# Altium schematic symbol library esp8266.SchLib: 5 symbols
Pins are listed as number, name and electrical type; pins without a type are passive.

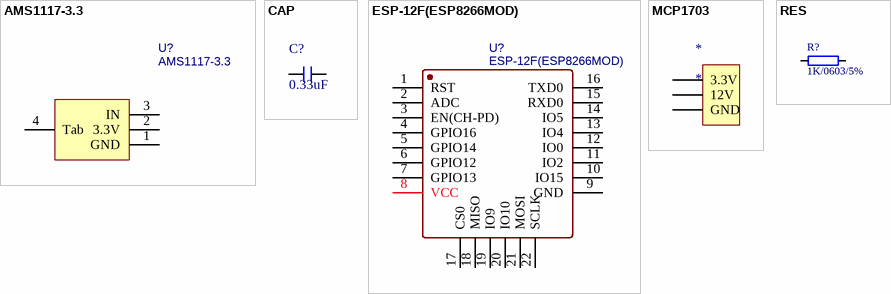
[diagram p0: symbols AMS1117-3.3 to RES]

## AMS1117-3.3
designator U?
BOM_Manufacturer: SK; Contributor: LCSC; SMT Type: Extend; BOM_Supplier: LCSC; BOM_Supplier Part: C165482; BOM_Manufacturer Part: AMS1117-3.3; BOM_LCSC Assembly: Yes; spicePre: U; spiceSymbolName: AMS1117-3.3_C165482
footprint SOT-223_L6.5-W3.5-P2.30-LS7.0-BR
pins: 1 GND, 2 3.3V, 3 IN, 4 Tab

## CAP
designator C?, comment 0.33uF
footprint C0603
pins: 1, 2

## ESP-12F(ESP8266MOD)
designator U?
BOM_Manufacturer: Ai-Thinker; BOM_Supplier: LCSC; BOM_Manufacturer Part: ESP-12F(ESP8266MOD); BOM_Supplier Part: C82891; spicePre: U; spiceSymbolName: ESP-12F(ESP8266MOD)
footprint WIFIM-SMD_ESP-12F-ESP8266MOD
pins: 1 RST, 2 ADC, 3 EN(CH-PD), 4 GPIO16, 5 GPIO14, 6 GPIO12, 7 GPIO13, 8 VCC, 9 GND, 10 IO15, 11 IO2, 12 IO0, 13 IO4, 14 IO5, 15 RXD0, 16 TXD0, 17 CS0, 18 MISO, 19 IO9, 20 IO10, 21 MOSI, 22 SCLK

## MCP1703
designator *
footprint SOT-89
pins: 1 3.3V, 2 12V, 3 GND

## RES
designator R?, comment 1K/0603/5%
footprint R0603
pins: 1, 2